# EAGLE library part AVRISP6 (library ads4)
6-pin dual-row connector for Atmel AVRISP programmer interface
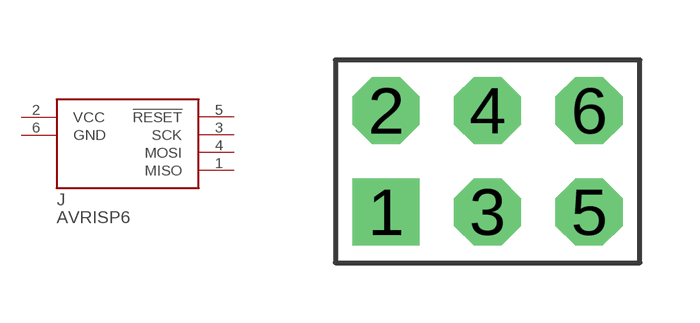
[diagram p62: symbol with the pads of CON6P2R; footprint CON6P2R]

Designator prefix J

## AVRISP6  [CON6P2R]
1  MISO  in
2  VCC  pwr
3  SCK  out
4  MOSI  out
5  !RESET  out
6  GND  pwr

## Footprint CON6P2R (pad centres in mm)
6-pin dual row 0.1" connector
drill 1.016 pad 1.676 square: 1 -2.54,-1.27
drill 1.016 pad 1.676 octagon: 2 -2.54,1.27; 3 0,-1.27; 4 0,1.27; 5 2.54,-1.27; 6 2.54,1.27